# Altium footprint library SHDR2W87P0X254_1X2_493X635X1105P.PcbLib: 1 footprints
Each footprint in its own frame and in the unit in brackets; x right, y up, seen from the top. Pads: shape width x height; smd on the part's side, far side on the other; paste and mask are expansions set on the pad; w line width, h text height; cw(c..) or ccw(c..) is an arc to the next point about the centre after c.
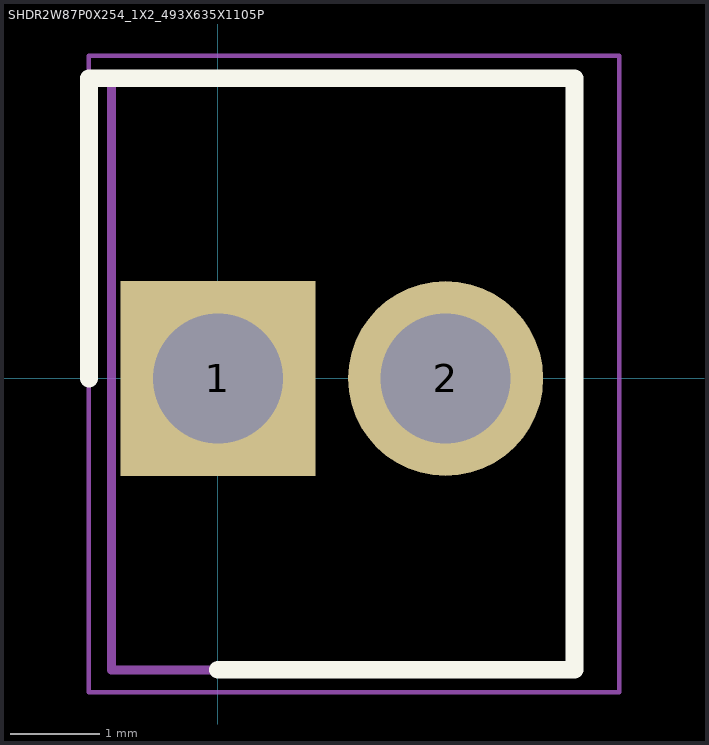
[diagram p0: the footprint, top view; thin cyan lines are the x and y axes]

## SHDR2W87P0X254_1X2_493X635X1105P [mm]
pads (2):
  rect 2.175x2.175 / inner round 2.175 / far side rect 2.175x2.175 hole 1.45: 1(0,0)
  round 2.175 hole 1.45: 2(2.54,0)
Top Overlay:
  lines w0.2: -1.438,0 -1.438,3.35 3.978,3.35 3.978,-3.25 0,-3.25
Mechanical 15:
  lines w0.1: -1.19,-3.25 -1.19,3.35 3.99,3.35 3.99,-3.25 -1.19,-3.25
Mechanical 20:
  lines w0.05: -1.44,-3.5 -1.44,3.6 4.475,3.6 4.475,-3.5 -1.44,-3.5